# Altium integrated library Serial Board.IntLib: 16 symbols
Pins are listed as number, name and electrical type; pins without a type are passive.

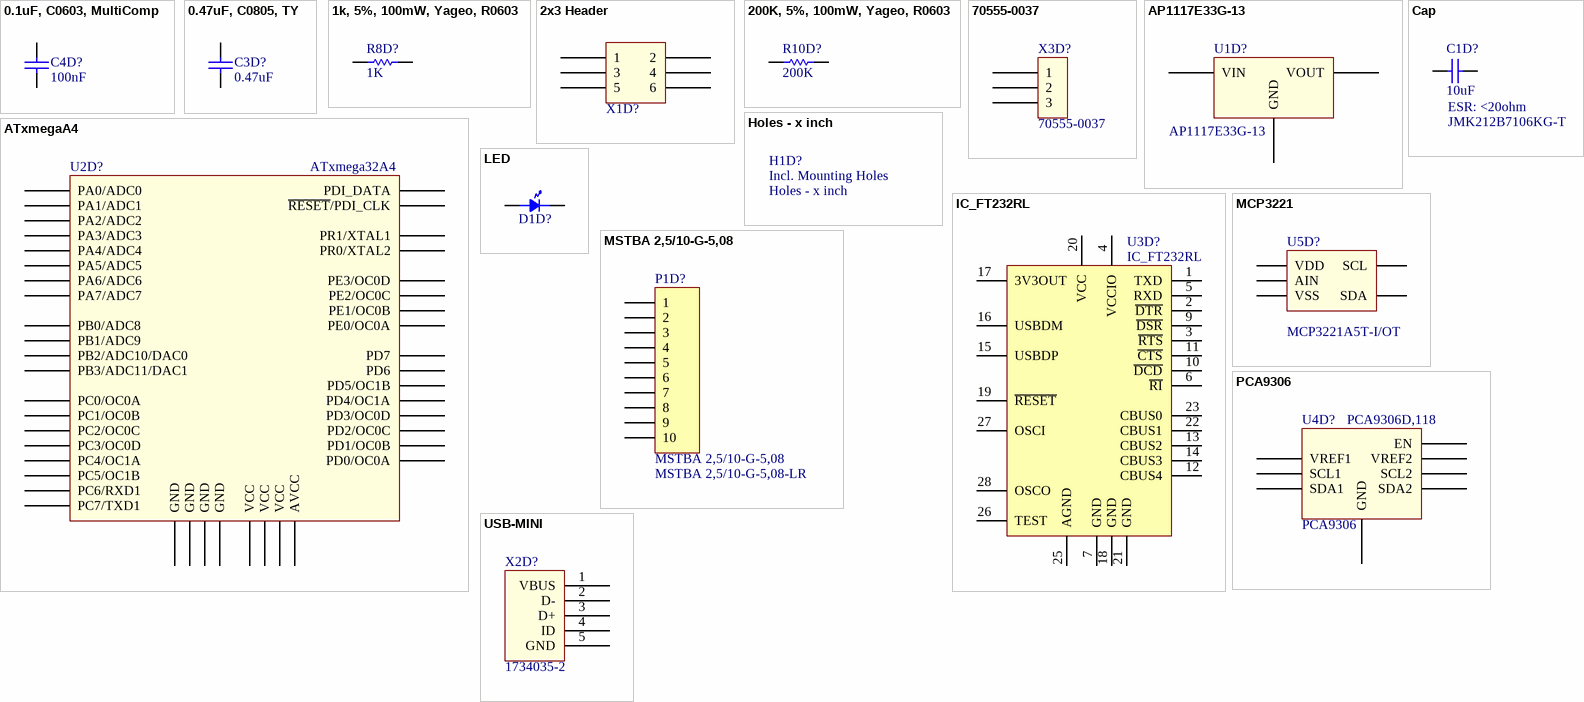
[diagram p0: symbols 0.1uF, C0603, MultiComp to USB-MINI]

## 0.1uF, C0603, MultiComp
designator C4D?  value 100nF  (hidden comment: 0.1uF, C0603, MultiComp)
Ceramic MLCC, Multicompo, X7R Dielectric; Manufacturer Part Number: MC0603B104K500CT; Description 1: MULTICOMP - MC0603B104K500CT - CERAMIC CAPACITOR, 0.1UF, 50V, X7R, 10%, 0603; Product Range: MC Series; Capacitance: 0.1 F; Capacitance Tolerance: 10%; Dielectric Characteristic: X7; Voltage Rating: 50; Ceramic Capacitor Case: 0603 [1608 Metric]; Supplier 1: Newark; Supplier Part Number 1: 06R4927; Manufacturer 1: MULTICOMP; RoHS: YES; Stock 1: 166516; Pricing 1: 1=0.075, 10=0.048, 50=0.027, 100=0.021, 250=0.017, 500=0.015, 1000=0.012 (USD); Packaging: Cut Tape; ComponentLink1URL: http://www.farnell.com/datasheets/1522998.pdf; ComponentLink1Description: http://www.farnell.com/datasheets/1522998.pdf; ComponentLink2URL: /pdfs/datasheets/spc/Ta-1098.pdf; ComponentLink2Description: /pdfs/datasheets/spc/Ta-1098.pdf
footprint C0603 (Chip Capacitor, 2-Leads, Body 1.6x0.8mm, IPC Medium Density)
pins: 1 +, 2 "-"

## 0.47uF, C0805, TY
designator C3D?  value 0.47uF  (hidden comment: 0.47uF, C0805, TY)
Ceramic MLCC, TY, X5R Dielectric; Manufacturer 1: TAIYO YUDEN; Manufacturer Part Number: UMK212B7474KG-T; Description 1: TAIYO YUDEN - UMK212B7474KG-T - CERAMIC CAPACITOR 0.47UF, 50V, X7R, 10%, 0805; Product Range: M Series; Capacitance: 0.47 F; Capacitance Tolerance: 10%; Dielectric Characteristic: X7; Voltage Rating: 50; Ceramic Capacitor Case: 0805 [2012 Metric]; Supplier 1: Newark; Supplier Part Number 1: 08P5198; RoHS: YES; Stock 1: 1406; Pricing 1: 1=0.126, 10=0.116, 50=0.109, 100=0.102, 500=0.08, 1000=0.065 (USD); Packaging: Cut Tape; ComponentLink1URL: http://www.yuden.co.jp/productdata/catalog/en/mlcc_pack_e.pdf; ComponentLink1Description: http://www.yuden.co.jp/productdata/catalog/en/mlcc_pack_e.pdf; ComponentLink2URL: http://www.farnell.com/datasheets/1481447.pdf; ComponentLink2Description: http://www.farnell.com/datasheets/1481447.pdf
footprint C0805 (Chip Capacitor, 2-Leads, Body 2.0x1.3mm, IPC Medium Density)
pins: 1 +, 2 "-"

## 1k, 5%, 100mW, Yageo, R0603
designator R8D?, comment value 1K  (hidden comment: Resistor)
Manufacturer 1: YAGEO; Manufacturer Part Number: RC0603JR-131KL; Tolerance: 5%; Description 1: YAGEO - RC0603JR-131KL - RES, THICK FILM, 1K, 5%, 0.1W, 0603; Product Range: RC Series; Resistance: 1; Power Rating: 100; Voltage Rating: 50; Resistor Case Style: 0603 [1608 Metric]; Body Height: 0.45; Supplier 1: Newark; Supplier Part Number 1: 68R0220; RoHS: YESX; Stock 1: 36430; Pricing 1: 1=0.06, 10=0.011, 25=0.008, 100=0.005, 250=0.003, 1000=0.002 (USD); Resistance Tolerance: 5%; Packaging: Cut Tape; MSL: -; ComponentLink1URL: http://www.farnell.com/datasheets/1868787.pdf; ComponentLink1Description: http://www.farnell.com/datasheets/1868787.pdf; ComponentLink2URL: http://www.yageo.com/pdf/PYu-RC0603_51_RoHS_L_4.pdf; ComponentLink2Description: http://www.yageo.com/pdf/PYu-RC0603_51_RoHS_L_4.pdf
footprint R0603 (Chip Resistor, 2-Leads, Body 1.5x0.8mm, IPC Medium Density)
pins: 1, 2

## 2x3 Header
designator X1D?, comment Header  (value not drawn)
2x3 Header; Manufacturer 1: FCI; Manufacturer Part Number: 67996-406HLF; Description 1: FCI - 67996-406HLF - BOARD-BOARD CONNECTOR HEADER, 6 POSITION, 2ROW; Product Range: BergStik 67996 Series; Contact Termination Type: Through Hole; No. of Contacts: 6; Pitch Spacing: 2.54; No. of Rows: 2; Supplier Part Number 1: 20M2191; Supplier 1: Newark; RoHS: YES; Stock 1: 441; Pricing 1: 1=0.254, 10=0.218, 25=0.186, 50=0.178, 100=0.16, 250=0.153, 500=0.128, 1000=0.117 (USD); Gender: Header; Contact Plating: Tin Plated Contacts; ComponentLink1URL: http://www.farnell.com/datasheets/1876884.pdf; ComponentLink1Description: http://www.farnell.com/datasheets/1876884.pdf
footprint 2x3 Header
pins: 1, 2, 3, 4, 5, 6

## 200K, 5%, 100mW, Yageo, R0603
designator R10D?, comment value 200K  (hidden comment: Resistor)
Manufacturer 1: YAGEO; Manufacturer Part Number: RC0603JR-07200KL; Tolerance: 5%; Description 1: YAGEO - RC0603JR-07200KL - RES, THICK FILM, 200K, 5%, 0.1W, 0603; Product Range: RC Series; Resistance: 200; Power Rating: 100; Voltage Rating: 50; Resistor Case Style: 0603 [1608 Metric]; No. of Pins: 2; Supplier 1: Newark; Supplier Part Number 1: 68R0165; RoHS: YESX; Stock 1: 7315; Pricing 1: 1=0.07, 10=0.012, 25=0.008, 100=0.005, 250=0.004, 1000=0.002 (USD); Resistance Tolerance: 5%; Packaging: Cut Tape; MSL: -; ComponentLink1URL: http://past.yageo.com/pdf/PYu-R_Packing_6.pdf; ComponentLink1Description: http://past.yageo.com/pdf/PYu-R_Packing_6.pdf; ComponentLink2URL: http://www.farnell.com/cad/1538908.zip; ComponentLink2Description: http://www.farnell.com/cad/1538908.zip; ComponentLink3URL: http://www.farnell.com/datasheets/1868787.pdf; ComponentLink3Description: http://www.farnell.com/datasheets/1868787.pdf; ComponentLink4URL: http://www.yageo.com/pdf/PYu-RC0603_51_RoHS_L_4.pdf; ComponentLink4Description: http://www.yageo.com/pdf/PYu-RC0603_51_RoHS_L_4.pdf
footprint R0603 (Chip Resistor, 2-Leads, Body 1.5x0.8mm, IPC Medium Density)
pins: 1, 2

## 70555-0037
designator X3D?
Molex, C-Grid SL 70555, 3 Pin; Product Range: SL 70555 Series; Contact Termination Type: Through Hole; Gender: Header; No. of Contacts: 3; Pitch Spacing: 2.54; No. of Rows: 1; Supplier 1: Newark; Supplier Part Number 1: 59H2958; Manufacturer: MOLEX; RoHS: YES; Stock 1: 1580; Pricing 1: 1=0.679, 10=0.622, 100=0.575, 500=0.575, 1000=0.534, 2000=0.495, 5000=0.484, 10000=0.47 (USD); Contact Plating: Gold Plated Contacts; ComponentLink1URL: http://www.farnell.com/cad/1737917.pdf; ComponentLink1Description: http://www.farnell.com/cad/1737917.pdf; ComponentLink2URL: http://www.farnell.com/datasheets/1947503.pdf; ComponentLink2Description: http://www.farnell.com/datasheets/1947503.pdf; ComponentLink3URL: http://www.farnell.com/cad/1980011.zip; ComponentLink3Description: http://www.farnell.com/cad/1980011.zip
footprint 70555-0037 (Molex C-Grid SL 70555, 3 Pin)
pins: 1, 2, 3

## AP1117E33G-13
designator U1D?
3.3V 1A Linear Regulator; Manufacturer 1: DIODES INC.; Description 1: DIODES INC. - AP1117E33G-13 - IC, LDO, REG, 3.3V, SOT223; Input Voltage Min: 4.8; Input Voltage Max: 18; Output Voltage Nom.: 3.3; Output Current: 1; Dropout Voltage Vdo: 1.3; LDO Regulator Case Style: SOT-223; No. of Pins: 3; Supplier 1: Newark; Supplier Part Number 1: 79R5845; Manufacturer Part Number: AP1117E33G-13; RoHS: YES; Stock 1: 8573; Pricing 1: 1=0.444, 10=0.324, 100=0.204, 250=0.151, 500=0.123, 1000=0.095 (USD); Operating Temperature Min: 0; ComponentLink1URL: http://www.farnell.com/datasheets/608751.pdf; ComponentLink1Description: http://www.farnell.com/datasheets/608751.pdf
footprint AP1117 (SOT223-3L)
pins: GND, VIN, VOUT

## ATxmegaA4
designator U2D?, comment ATxmega32A4
Manufacturer 1: ATMEL; Manufacturer Part Number: ATXMEGA32A4-AU; Description 1: ATMEL - ATXMEGA32A4-AU - MICROCONTROLLER MCU, 8 BIT, AVR XMEGA, 32MHZ, TQFP-44; CPU Speed: 32; RAM Memory Size: 4; No. of Pins: 44; MCU Case Style: TQFP; No. of I/O's: 34; Supply Voltage Min: 1.6; Supplier 1: Newark; Supplier Part Number 1: 68T3938; RoHS: YES; Stock 1: 376; Pricing 1: 1=6.13, 10=5.5, 25=5.01, 50=4.54, 100=4.24, 250=4.11, 500=3.8, 1000=3.53 (USD); Controller Family/Series: ATxmega; Program Memory Size: 32; ComponentLink1URL: http://www.farnell.com/datasheets/1734580.pdf; ComponentLink1Description: http://www.farnell.com/datasheets/1734580.pdf; ComponentLink2URL: http://www.farnell.com/cad/1773773.zip; ComponentLink2Description: http://www.farnell.com/cad/1773773.zip; ComponentLink3URL: http://bcove.me/gu8hm7kh; ComponentLink3Description: http://bcove.me/gu8hm7kh
footprint ATxmegaA4-TQFP44 (TQFP, 44-Leads, Body 12.3x12.3mm (max), Pitch 0.80mm, IPC Medium Density)
pins: 1 PA5/ADC5, 2 PA6/ADC6, 3 PA7/ADC7, 4 PB0/ADC8, 5 PB1/ADC9, 6 PB2/ADC10/DAC0, 7 PB3/ADC11/DAC1, 8 GND, 9 VCC, 10 PC0/OC0A, 11 PC1/OC0B, 12 PC2/OC0C, 13 PC3/OC0D, 14 PC4/OC1A, 15 PC5/OC1B, 16 PC6/RXD1, 17 PC7/TXD1, 18 GND, 19 VCC, 20 PD0/OC0A, 21 PD1/OC0B, 22 PD2/OC0C, 23 PD3/OC0D, 24 PD4/OC1A, 25 PD5/OC1B, 26 PD6, 27 PD7, 28 PE0/OC0A, 29 PE1/OC0B, 30 GND, 31 VCC, 32 PE2/OC0C, 33 PE3/OC0D, 34 PDI_DATA, 35 ~{RESET}/PDI_CLK, 36 PR0/XTAL2, 37 PR1/XTAL1, 38 GND, 39 AVCC, 40 PA0/ADC0, 41 PA1/ADC1, 42 PA2/ADC2, 43 PA3/ADC3, 44 PA4/ADC4

## Cap
designator C1D?, comment value 10uF  ESR: <20ohm  Manufacturer Part Number: JMK212B7106KG-T  (hidden comment: .1uF)
Unpolarized Capacitor; Manufacturer 1: TAIYO YUDEN; Description 1: TAIYO YUDEN - JMK212B7106KG-T - CERAMIC CAPACITOR, 10UF, 6.3V, X7R, 10%, 0805; Product Range: M Series; Capacitance: 10 F; Capacitance Tolerance: 10%; Dielectric Characteristic: X7; Voltage Rating: 6.3; Ceramic Capacitor Case: 0805 [2012 Metric]; Supplier 1: Newark; Supplier Part Number 1: 84R9126; RoHS: YES; Stock 1: 492; Pricing 1: 1=0.13, 10=0.12, 50=0.112, 100=0.105, 500=0.083, 1000=0.068 (USD); Packaging: Cut Tape; ComponentLink1URL: http://www.farnell.com/datasheets/1910934.pdf; ComponentLink1Description: http://www.farnell.com/datasheets/1910934.pdf
footprint C0402 (Chip Capacitor, 2-Leads, Body 1.0x0.5mm, IPC Medium Density)
footprint C0603 (Chip Capacitor, 2-Leads, Body 1.6x0.8mm, IPC Medium Density)
footprint C0805 (Chip Capacitor, 2-Leads, Body 2.0x1.3mm, IPC Medium Density)
footprint C1206 (Chip Capacitor, 2-Leads, Body 3.2x1.6mm, IPC Medium Density)
footprint C1210 (Chip Capacitor, 2-Leads, Body 3.2x1.6mm, IPC Medium Density)
pins: 1, 2

## Holes - x inch
designator H1D?
footprint Holes - 3 Inch
footprint Holes - 2.75 Inch
footprint Holes - 1.75 Inch
footprint Holes - 2.5 Inch
footprint Holes - 1.5 Inch - duplicate
footprint Holes - 1.0 Inch
footprint 110mil Holes - 1.5 Inch
footprint 110mil Holes - 2.6  Inch
footprint 110mil Holes - 1.6 Inch
footprint 110mil Holes - 2.5  Inch
footprint 110mil Holes - 1.1 Inch
footprint 110mil Holes - 1.0 Inch
text: Incl. Mounting Holes

## IC_FT232RL
designator U3D?
FT232R USB UART; Manufacturer: *; Note: *; ManufacturerPartNo: *
footprint SSOP-28
pins: 1 TXD, 2 ~{DTR}, 3 ~{RTS}, 4 VCCIO, 5 RXD, 6 ~{RI}, 7 GND, 8 NC hidden to NC, 9 ~{DSR}, 10 ~{DCD}, 11 ~{CTS}, 12 CBUS4, 13 CBUS2, 14 CBUS3, 15 USBDP, 16 USBDM, 17 3V3OUT, 18 GND, 19 ~{RESET}, 20 VCC, 21 GND, 22 CBUS1, 23 CBUS0, 24 NC hidden to NC, 25 AGND, 26 TEST, 27 OSCI, 28 OSCO
2 alternate drawings of the same symbol

## LED
designator D1D?  (value not drawn)
footprint LED0805 (0805 LED)
footprint CREE XLAMP 7090B
pins: 1, 2

## MCP3221
designator U5D?  Manufacturer Part Number: MCP3221A5T-I/OT
MCP3221, 12 bit ADC, I2C; Manufacturer: MICROCHIP; Resolution (Bits): 12; Sampling Rate: 22.3; Supply Voltage Type: Single; Supply Voltage Min: 2.7; Supply Voltage Max: 5.5; ADC / DAC Case Style: SOT-23; No. of Pins: 5; Supplier 1: Newark; Supplier Part Number 1: 92C2410; RoHS: YES; Stock 1: 2165; Pricing 1: 1=1.44, 26=1.2, 100=1.09 (USD); ComponentLink1URL: http://www.farnell.com/cad/1545531.zip; ComponentLink1Description: http://www.farnell.com/cad/1545531.zip; ComponentLink2URL: http://www.farnell.com/datasheets/12186.pdf; ComponentLink2Description: http://www.farnell.com/datasheets/12186.pdf
footprint MCP3221-SOT23-5 (MCP3221 12 bit ADC, SOT23-5)
pins: AIN, SCL, SDA, VDD, VSS

## MSTBA 2,5/10-G-5,08
designator P1D?  Manufacturer Part Number: MSTBA 2,5/10-G-5,08-LR
Header, 10-Pin; Manufacturer 1: PHOENIX CONTACT; Description 1: PHOENIX CONTACT - MSTBA 2,5/10-G-5,08-LR - TERMINAL BLOCK, HEADER, 10POS, TH; URL: http://www.mouser.com/ProductDetail/Phoenix-Contact/1792708/?qs=sGAEpiMZZMsDddcp1dBDJI66tvLKBAoKnRJwuCPjeJk%3d; Supplier 1: Newark; Supplier Part Number 1: 88W5041; RoHS: YES; Stock 1: 37; Pricing 1: 1=3.07, 100=2.89, 250=2.67, 500=2.55, 1000=2.27 (USD); ComponentLink1URL: http://www.farnell.com/datasheets/1702208.pdf; ComponentLink1Description: http://www.farnell.com/datasheets/1702208.pdf
signal-integrity model Connector
footprint MSTBA 2,5/10-G-5,08 (Header, Male, 10 Pin, 90deg)
pins: 1, 2, 3, 4, 5, 6, 7, 8, 9, 10

## PCA9306
designator U4D?  Manufacturer Part Number: PCA9306D,118
PCA9306, Bidirectional level translator; Manufacturer: NXP; IC Interface Type: I2; Supply Voltage Min: 1; Supply Voltage Max: 3.6; Interface Case Style: SOIC; No. of Pins: 8; Supplier 1: Newark; Supplier Part Number 1: 70R6428; RoHS: YES; Stock 1: 3293; Pricing 1: 1=0.346, 10=0.346, 25=0.346, 100=0.346, 250=0.317, 500=0.317, 1000=0.293, 2500=0.272 (USD); Interface Applications: -; Operating Temperature Min: -40 C; Packaging: Cut Tape; ComponentLink1URL: http://www.nxp.com/packings/SOT96-1_118.html; ComponentLink1Description: http://www.nxp.com/packings/SOT96-1_118.html; ComponentLink2URL: http://www.farnell.com/cad/1549203.zip; ComponentLink2Description: http://www.farnell.com/cad/1549203.zip; ComponentLink3URL: http://www.farnell.com/datasheets/1805226.pdf; ComponentLink3Description: http://www.farnell.com/datasheets/1805226.pdf
footprint PCA9306-SO8 (PCA9306, Bidirection level translator)
pins: EN, GND, SCL1, SCL2, SDA1, SDA2, VREF1, VREF2

## USB-MINI
designator X2D?, comment Manufacturer Part Number: 1734035-2  (hidden comment: USB Mini Jack)
USB Mini connector; Manufacturer 1: TE CONNECTIVITY; Description 1: TE CONNECTIVITY - 1734035-2 - MINI USB, 2.0 TYPE B, RECEPTACLE, SMT; Supplier Part Number 1: 16M3869; Supplier 1: Newark; RoHS: YES; Stock 1: 6729; Pricing 1: 1=1.08, 25=0.989, 50=0.989, 100=0.989, 200=0.989 (USD); ComponentLink1URL: http://www.farnell.com/datasheets/1650952.pdf; ComponentLink1Description: http://www.farnell.com/datasheets/1650952.pdf; ComponentLink2URL: http://www.farnell.com/cad/1650238.tif; ComponentLink2Description: http://www.farnell.com/cad/1650238.tif; ComponentLink3URL: http://www.farnell.com/datasheets/1665303.pdf; ComponentLink3Description: http://www.farnell.com/datasheets/1665303.pdf
footprint UX60-MB-5ST (USB, mini B, right angle, surface mount)
pins: 1 VBUS, 2 D-, 3 D+, 4 ID, 5 GND